# EAGLE library part ATSAMD11 (library PiB_ic_microcontrollers)
Atmel SAM D11 ARM M0 uC M0 Cortex family of Atmel chips with USB differential inputs. Used commonly as a USB to TTL convertor for UPDI interfacing.
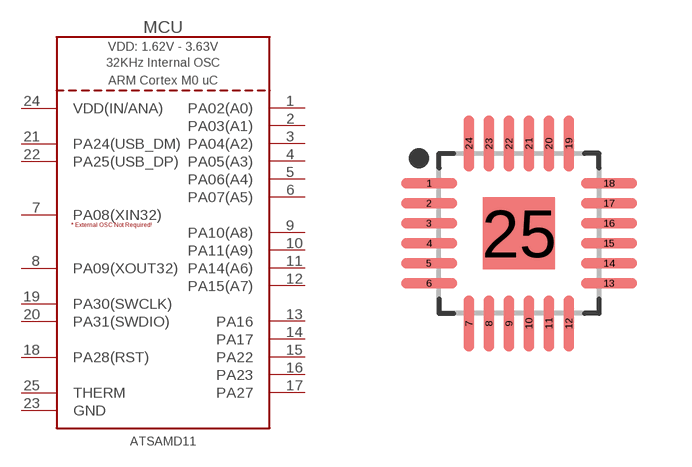
[diagram p8: symbol with the pads of QFN50P400X400X90-25T220M; footprint QFN50P400X400X90-25T220M]

Designator prefix MCU

## ATSAMD11D14A-MUT (CREATOR: Kenmei; DATASHEET: http://ww1.microchip.com/downloads/en/DeviceDoc/Atmel-42363-SAM-D11_Datasheet.pdf; DIST: Digikey; DISTLINK: https://www.digikey.com/product-detail/en/microchip-technology/ATSAMD11D14A-MUT/ATSAMD11D14A-MUTCT-ND/; DISTPN: ATSAMD11D14A-MUTCT-ND; MFR: Microchip Technology; MPN: ATSAMD11D14A-MUT; VALUE: ATSAMD11D)  [QFN50P400X400X90-25T220M]
1  PA02(A0)
2  PA03(A1)
3  PA04(A2)
4  PA05(A3)
5  PA06(A4)
6  PA07(A5)
7  PA08(XIN32)
8  PA09(XOUT32)
9  PA10(A8)
10  PA11(A9)
11  PA14(A6)
12  PA15(A7)
13  PA16
14  PA17
15  PA22
16  PA23
17  PA27
18  PA28(RST)
19  PA30(SWCLK)
20  PA31(SWDIO)
21  PA24(USB_DM)
22  PA25(USB_DP)
23  GND
24  VDD(IN/ANA)
25  THERM

## Footprint QFN50P400X400X90-25T220M (pad centres in mm)
24-QFN, 0.50 mm pitch, 4.00 X 4.00 X 0.90 mm body, 2.20 X 2.20 mm thermal pad 24-pin QFN package with 0.50 mm pitch with body size 4.00 X 4.00 X 0.90 mm and thermal pad size 2.20 X 2.20 mm
smd 1.411 x 0.264: 1 -2.251,1.25; 2 -2.251,0.75; 3 -2.251,0.25; 4 -2.251,-0.25; 5 -2.251,-0.75; 6 -2.251,-1.25; 13 2.251,-1.25; 14 2.251,-0.75; 15 2.251,-0.25; 16 2.251,0.25; 17 2.251,0.75; 18 2.251,1.25
smd 0.264 x 1.411: 7 -1.25,-2.251; 8 -0.75,-2.251; 9 -0.25,-2.251; 10 0.25,-2.251; 11 0.75,-2.251; 12 1.25,-2.251; 19 1.25,2.251; 20 0.75,2.251; 21 0.25,2.251; 22 -0.25,2.251; 23 -0.75,2.251; 24 -1.25,2.251
smd 1.8 x 1.8: 25 0,0